# EAGLE library part MPU9250 (library CRD)
Acelerômetro e Giroscópio
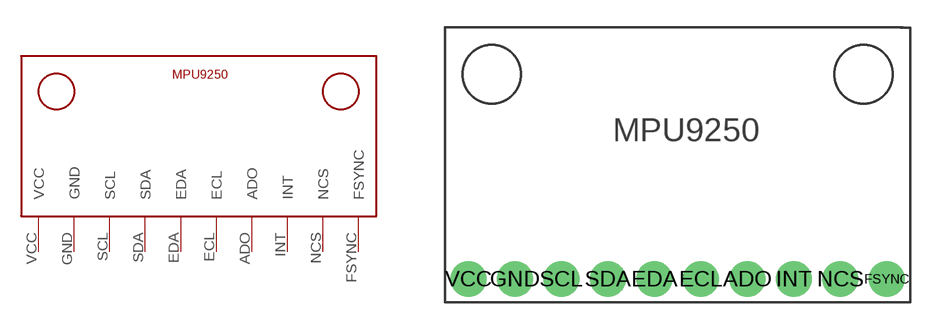
[diagram p2: symbol with the pads of MPU9250_FOOTPRINT; footprint MPU9250_FOOTPRINT]

Designator prefix -

## MPU9250V1  [MPU9250_FOOTPRINT]
ADO  ADO
ECL  ECL
EDA  EDA
FSYNC  FSYNC
GND  GND
INT  INT
NCS  NCS
SCL  SCL
SDA  SDA
VCC  VCC

## Footprint MPU9250_FOOTPRINT (pad centres in mm)
drill 1.3: ADO 3.81,-6.35; ECL 1.27,-6.35; EDA -1.27,-6.35; FSYNC 11.43,-6.35; GND -8.89,-6.35; INT 6.35,-6.35; NCS 8.89,-6.35; SCL -6.35,-6.35; SDA -3.81,-6.35; VCC -11.43,-6.35